# Altium footprint library A_Speciality.PcbLib: 10 footprints
Each footprint in its own frame and in the unit in brackets; x right, y up, seen from the top. Pads: shape width x height; smd on the part's side, far side on the other; paste and mask are expansions set on the pad; w line width, h text height; cw(c..) or ccw(c..) is an arc to the next point about the centre after c.
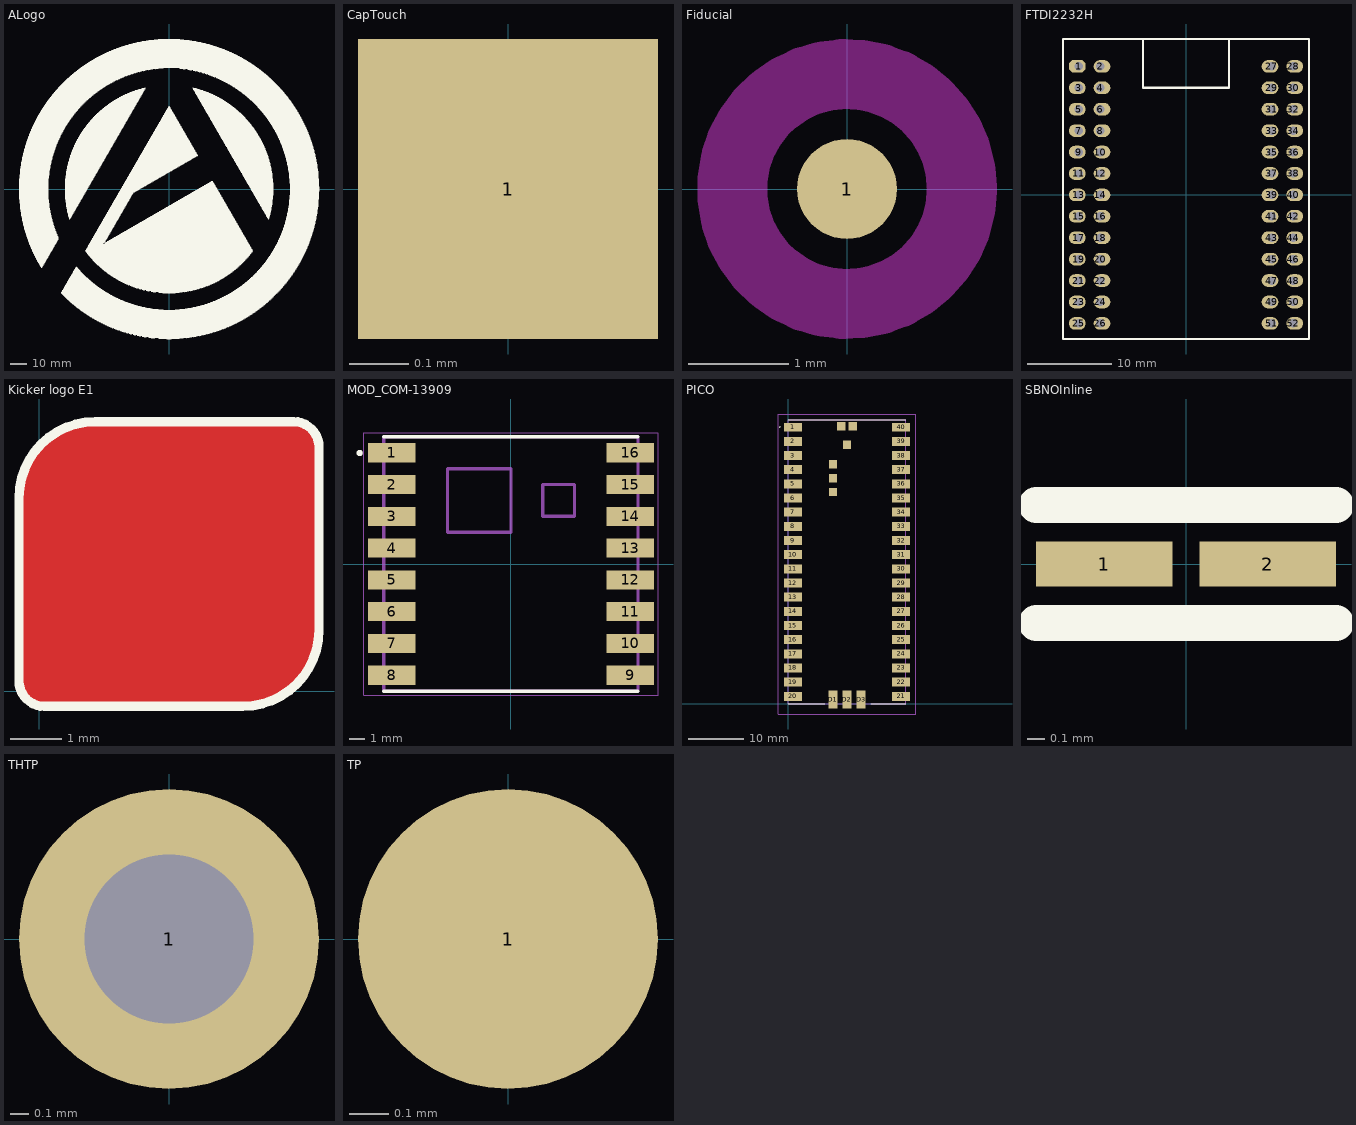
[diagram p0: the footprints below, top view; thin cyan lines are the x and y axes]

## ALogo [mm]
Top Overlay:
  drawing of 4 lines, arcs and shapes, not listed

## CapTouch [mil]
pads (1):
  rect 20x20 smd paste+0 mask+0: 1(0,0)

## Fiducial [mm]
pads (1):
  round 1 smd mask+0.05: 1(0,0)
Top Layer keep-out:
  circle w0.7: c0,0 r1.15
Top Solder:
  region: 0,-1.5 -0.148,-1.5 -0.438,-1.442 -0.711,-1.329 -0.956,-1.165 -1.165,-0.956 -1.329,-0.711 -1.442,-0.438 -1.5,-0.148 -1.5,0 -1.5,0.148 -1.442,0.438 -1.329,0.711 -1.165,0.956 -0.956,1.165 -0.711,1.329 -0.438,1.442 -0.148,1.5 0,1.5 0.148,1.5 0.438,1.442 0.711,1.329 0.956,1.165 1.165,0.956 1.329,0.711 1.442,0.438 1.5,0.148 1.5,0 1.5,-0.148 1.442,-0.438 1.329,-0.711 1.165,-0.956 0.956,-1.165 0.711,-1.329 0.438,-1.442 0.148,-1.5

## FTDI2232H [mm]
pads (52):
  oct 2x1.5 hole 1 copper offset -0.2,0: 1(-12.7,15.24)
  oval 2x1.5 hole 1 copper offset 0.2,0: 2(-10.16,15.24) 4(-10.16,12.7)
  oval 2x1.5 hole 1 copper offset -0.2,0: 3(-12.7,12.7)
  rrect100% 2x1.5 hole 1 copper offset -0.2,0: 5(-12.7,10.16) 7(-12.7,7.62) 9(-12.7,5.08) 11(-12.7,2.54) 13(-12.7,0) 15(-12.7,-2.54) 17(-12.7,-5.08) 19(-12.7,-7.62) 21(-12.7,-10.16) 23(-12.7,-12.7) 25(-12.7,-15.24) 27(10.16,15.24) 29(10.16,12.7) 31(10.16,10.16) 33(10.16,7.62) 35(10.16,5.08) 37(10.16,2.54) 39(10.16,0) 41(10.16,-2.54) 43(10.16,-5.08) 45(10.16,-7.62) 47(10.16,-10.16) 49(10.16,-12.7) 51(10.16,-15.24)
  rrect100% 2x1.5 hole 1 copper offset 0.2,0: 6(-10.16,10.16) 8(-10.16,7.62) 10(-10.16,5.08) 12(-10.16,2.54) 14(-10.16,0) 16(-10.16,-2.54) 18(-10.16,-5.08) 20(-10.16,-7.62) 22(-10.16,-10.16) 24(-10.16,-12.7) 26(-10.16,-15.24) 28(12.7,15.24) 30(12.7,12.7) 32(12.7,10.16) 34(12.7,7.62) 36(12.7,5.08) 38(12.7,2.54) 40(12.7,0) 42(12.7,-2.54) 44(12.7,-5.08) 46(12.7,-7.62) 48(12.7,-10.16) 50(12.7,-12.7) 52(12.7,-15.24)
Top Overlay:
  lines w0.254: -5.08,18.49 -5.08,12.7 5.08,12.7 5.08,18.49 ; -14.575,-17.09 14.575,-17.09 14.575,18.49 -14.575,18.49 -14.575,-17.09

## Kicker logo E1 [mm]
Top Layer:
  pour cut-out: -0.4,-0.05 -0.4,4.15 -0.225,4.5 0.325,5.1 1,5.3 5.225,5.3 5.5,5.025 5.5,0.75 5.075,0.15 4.6,-0.15 4.2,-0.3 -0.15,-0.3
  region: 0,0 2.325,0 0.6,2.85
  region: 4.175,0 5.225,4.999 4.1,4.999 1.825,2.925 3.5,0
  region: 0.625,3 1.05,4.999 2.875,4.999
Top Overlay:
  lines w0.185: -0.4,0.2 ccw(c0.1,0.2) 0.1,-0.3 4,-0.3 ccw(c4,1.2) 5.5,1.2 5.5,4.8 ccw(c5,4.8) 5,5.3 1.1,5.3 ccw(c1.1,3.8) -0.4,3.8 -0.4,0.2
Top Solder:
  region: 2.325,0 0,0 0.025,0.125 2.25,0.125
  region: 0,0 0.125,0 0.702,2.679 0.6,2.85
  region: 0.6,2.85 2.325,0 2.175,0 0.575,2.65
  region: 1.6,1.9
  region: 0.625,3 1.05,5 1.185,5 0.806,3.203
  region: 0.625,3 2.875,5 2.687,5 0.773,3.295
  region: 1.05,5 2.875,5 2.687,4.875 1.144,4.875
  region: 3.5,0 3.5,0.125 4.2,0.125 4.175,0
  region: 3.5,0 1.825,2.925 1.945,2.985 3.618,0.078
  region: 4.175,0 5.225,5 5.099,5 4.047,0.043
  region: 5.225,5 5.2,4.875 3.975,4.875 4.1,5
  region: 4.1,5 1.825,2.925 1.935,2.842 4.265,4.967

## MOD_COM-13909 [mm]
pads (16):
  rect 3x1.2 smd: 1(-7.5,7) 2(-7.5,5) 3(-7.5,3) 4(-7.5,1) 5(-7.5,-1) 6(-7.5,-3) 7(-7.5,-5) 8(-7.5,-7) 9(7.5,-7) 10(7.5,-5) 11(7.5,-3) 12(7.5,-1) 13(7.5,1) 14(7.5,3) 15(7.5,5) 16(7.5,7)
Top Overlay:
  circle w0.2: c-9.525,6.985 r0.1
  lines w0.203: -8,-8 8,-8 ; -8,8 8,8
Mechanical 13:
  lines w0.203: -8,-8 -8,8 8,8 8,-8 -8,-8 ; -4,2 0,2 0,6 -4,6 -4,2 ; 2,3 4,3 4,5 2,5 2,3
Mechanical 15:
  lines w0.05: -9.25,-8.25 9.25,-8.25 9.25,8.25 -9.25,8.25 -9.25,-8.25

## PICO [mm]
pads (49):
  rect 3.2x1.6 smd: 1(0.81,49.63) 2(0.81,47.09) 3(0.81,44.55) 4(0.81,42.01) 5(0.81,39.47) 6(0.81,36.93) 7(0.81,34.39) 8(0.81,31.85) 9(0.81,29.31) 10(0.81,26.77) 11(0.81,24.23) 12(0.81,21.69) 13(0.81,19.15) 14(0.81,16.61) 15(0.81,14.07) 16(0.81,11.53) 17(0.81,8.99) 18(0.81,6.45) 19(0.81,3.91) 20(0.81,1.37) 21(20.19,1.37) 22(20.19,3.91) 23(20.19,6.45) 24(20.19,8.99) 25(20.19,11.53) 26(20.19,14.07) 27(20.19,16.61) 28(20.19,19.15) 29(20.19,21.69) 30(20.19,24.23) 31(20.19,26.77) 32(20.19,29.31) 33(20.19,31.85) 34(20.19,34.39) 35(20.19,36.93) 36(20.19,39.47) 37(20.19,42.01) 38(20.19,44.55) 39(20.19,47.09) 40(20.19,49.63)
  rect 1.6x3.2 smd: D1(7.96,0.8) D2(10.5,0.8) D3(13.04,0.8)
  rect 1.5x1.5 smd: TP1(10.5,46.5) TP2(11.5,49.8) TP3(9.5,49.8) TP4(8,43) TP5(8,40.5) TP6(8,38)
Top Overlay:
  lines w0.1: 0,0 6.5,0 0,0 ; 0,51 21,51 0,51 ; 14.75,0 21,0 14.75,0
  lines w0.2: -1.6,49.7 ccw(c-1.55,49.7) -1.5,49.7 ; -1.6,49.7 cw(c-1.55,49.7) -1.5,49.7 ; -1.6,49.7 ccw(c-1.55,49.7) -1.5,49.7
Mechanical 15:
  lines w0.2: 0,0 21,0 21,51 0,51 0,0
Mechanical 20:
  lines w0.1: -1.79,-1.8 22.79,-1.8 22.79,52 -1.79,52 -1.79,-1.8
3D body "PICO.stp": height 3.69, standoff 0, extent 0,0.03 21,52.456

## SBNOInline [mil]
pads (2):
  rect 30x10 smd: 1(-18,0) 2(18,0)
Top Overlay:
  lines w7.87: -33,-13 33,-13 ; -33,13 33,13

## THTP [mm]
pads (1):
  round 1.6 hole 0.9: 1(0,0)
3D body: height 0.1, standoff 0, extent -0.8,-0.8 0.8,0.8
3D body: height 0.1, standoff 0, extent -0.693,-0.693 0.693,0.693
3D body: height 0.1, standoff 0, extent -0.693,-0.693 0.693,0.693

## TP [mil]
pads (1):
  round 30 smd mask+2: 1(0,0)
3D body: height 1, standoff 0, extent -14.92,-14.93 15,14.99
3D body: height 1, standoff 0, extent -10.52,-10.59 10.62,10.59
3D body: height 1, standoff 0, extent -13.77,-13.81 13.86,13.85
3D body: height 1, standoff 0, extent -13.81,-13.78 13.85,13.85